# Altium schematic symbol library crystals.SchLib: 2 symbols
Pins are listed as number, name and electrical type; pins without a type are passive.

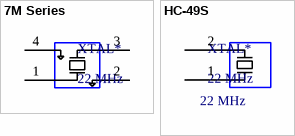
[diagram p0: symbols 7M Series to HC-49S]

## 7M Series
designator XTAL*, comment 22 MHz
4 pad SMT 22 MHz crystal
footprint 7M 4 pad (SMT footprint for 7M series 4 pin crystal)
pins: 1 XIN, 2 Gnd, 3 XOUT, 4 Gnd

## HC-49S
designator XTAL*, comment 22 MHz
SMT 22 MHz crystal
footprint HC-49S SMT (footprint for 2 pin smt crystal)
pins: 1 (power) "Output", 2 (power) "Output"